# EAGLE library part C8051F920/30 (library silicon-labs)
MICROCONTROLLER Single/Dual Battery, 0.9-3.6 V, 64/32 kB, smaRTClock, 10-Bit ADC MCU
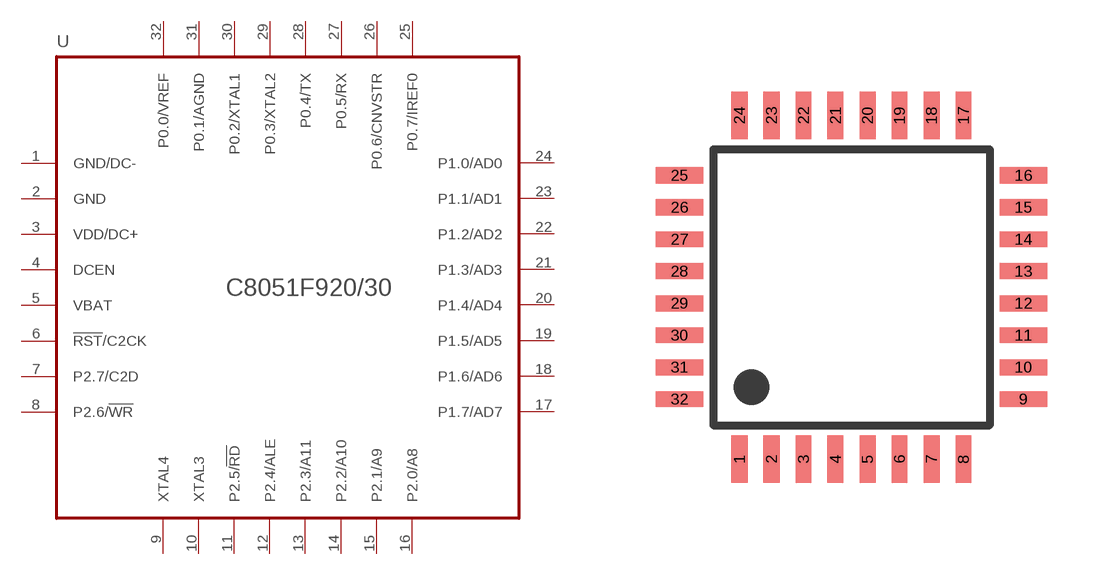
[diagram p4: symbol with the pads of LQFP-7X7-32; footprint LQFP-7X7-32]

Designator prefix U

## C8051F920/30  [LQFP-7X7-32]
1  GND/DC-  pwr
2  GND  pwr
3  VDD/DC+
4  DCEN  in
5  VBAT  pwr
6  !RST!/C2CK
7  P2.7/C2D
8  P2.6/!WR!
9  XTAL4  out
10  XTAL3  in
11  P2.5/!RD!
12  P2.4/ALE
13  P2.3/A11
14  P2.2/A10
15  P2.1/A9
16  P2.0/A8
17  P1.7/AD7
18  P1.6/AD6
19  P1.5/AD5
20  P1.4/AD4
21  P1.3/AD3
22  P1.2/AD2
23  P1.1/AD1
24  P1.0/AD0
25  P0.7/IREF0
26  P0.6/CNVSTR
27  P0.5/RX
28  P0.4/TX
29  P0.3/XTAL2
30  P0.2/XTAL1
31  P0.1/AGND
32  P0.0/VREF

## Footprint LQFP-7X7-32 (pad centres in mm)
LQFP-32 package 7x7 mm case, 0.8 mm lead pitch
smd 0.4 x 1.2: 1 -2.8,-4.3; 2 -2,-4.3; 3 -1.2,-4.3; 4 -0.4,-4.3; 5 0.4,-4.3; 6 1.2,-4.3; 7 2,-4.3; 8 2.8,-4.3; 17 2.8,4.3; 18 2,4.3; 19 1.2,4.3; 20 0.4,4.3; 21 -0.4,4.3; 22 -1.2,4.3; 23 -2,4.3; 24 -2.8,4.3
smd 1.2 x 0.4: 9 4.3,-2.8; 10 4.3,-2; 11 4.3,-1.2; 12 4.3,-0.4; 13 4.3,0.4; 14 4.3,1.2; 15 4.3,2; 16 4.3,2.8; 25 -4.3,2.8; 26 -4.3,2; 27 -4.3,1.2; 28 -4.3,0.4; 29 -4.3,-0.4; 30 -4.3,-1.2; 31 -4.3,-2; 32 -4.3,-2.8